# Altium footprint library XAL7070-472MEB-Footprint-1.PcbLib: 1 footprints
Each footprint in its own frame and in the unit in brackets; x right, y up, seen from the top. Pads: shape width x height; smd on the part's side, far side on the other; paste and mask are expansions set on the pad; w line width, h text height; cw(c..) or ccw(c..) is an arc to the next point about the centre after c.
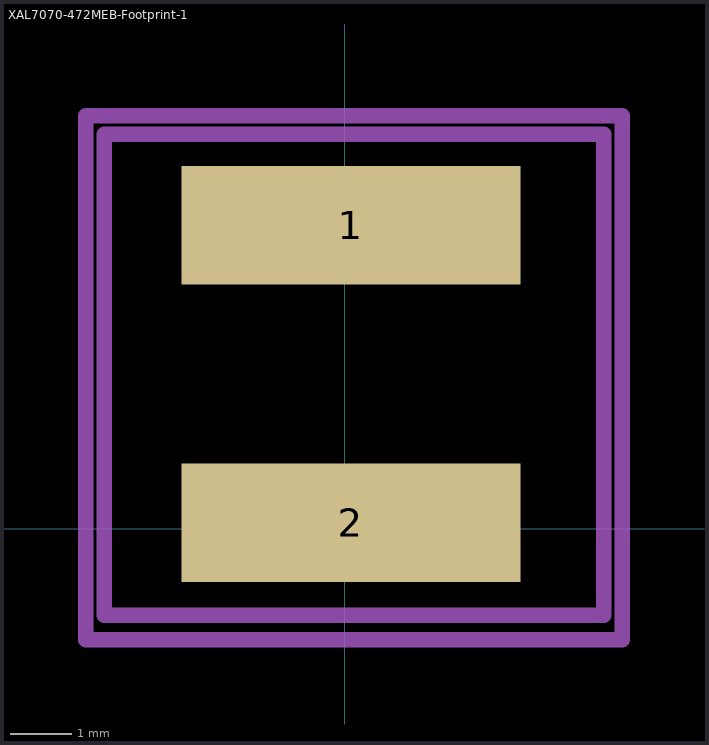
[diagram p0: the footprint, top view; thin cyan lines are the x and y axes]

## XAL7070-472MEB-Footprint-1 [mm]
pads (2):
  rect 5.5x1.92 smd mask+0.102: 1(0.1,4.92)
  rect 5.5x1.92 smd mask+0.07: 2(0.1,0.1)
Mechanical 2:
  lines w0.254: -3.9,-1.4 4.2,-1.4 4.2,6.4 -3.9,6.4 -3.9,-1.4
Mechanical 4:
  lines w0.254: -4.2,-1.8 -4.2,6.7 4.5,6.7 4.5,-1.8 -4.2,-1.8
3D body "Coilcraft-XAL7070.STEP": height 6.6, standoff -0.4, extent -3.873,-1.35 4.127,6.35